# EAGLE library part MOLEX_MICRO-FIT_10WAY (library usevolt)
MOLEX HEADER, MICRO-FIT, R/A, DUAL ROW, 10 WAY, 1012255
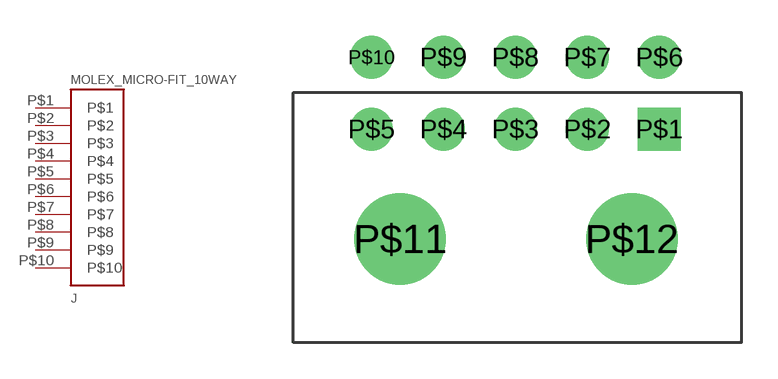
[diagram p11: symbol with the pads of MOLEX-MICRO-FIT_10WAY; footprint MOLEX-MICRO-FIT_10WAY]

Designator prefix J

## MOLEX_MICRO-FIT_10WAYTH  [MOLEX-MICRO-FIT_10WAY]
P$1  P$1
P$2  P$2
P$3  P$3
P$4  P$4
P$5  P$5
P$6  P$6
P$7  P$7
P$8  P$8
P$9  P$9
P$10  P$10

## Footprint MOLEX-MICRO-FIT_10WAY (pad centres in mm)
drill 1.016 pad 1.778 square: P$1 0,-0.508
drill 1.016 pad 1.778: P$2 -2.997,-0.508; P$3 -5.994,-0.508; P$4 -8.992,-0.508; P$5 -11.989,-0.508; P$6 0,2.489; P$7 -2.997,2.489; P$8 -5.994,2.489; P$9 -8.992,2.489; P$10 -11.989,2.489
drill 1.905 pad 3.81: P$11 -10.795,-5.08; P$12 -1.143,-5.08